# Altium schematic symbol library Schlib1.SchLib: 2 symbols
Pins are listed as number, name and electrical type; pins without a type are passive.

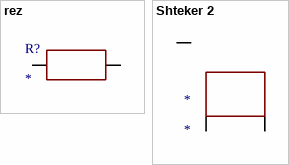
[diagram p0: symbols rez to Shteker 2]

## rez
designator R?
footprint rez 0.8 0.5
pins: 1, 2

## Shteker 2
designator *
footprint shteker 2
pins: 1, 2, 3